# Altium footprint library USB1125GFB.PcbLib: 1 footprints
Each footprint in its own frame and in the unit in brackets; x right, y up, seen from the top. Pads: shape width x height; smd on the part's side, far side on the other; paste and mask are expansions set on the pad; w line width, h text height; cw(c..) or ccw(c..) is an arc to the next point about the centre after c.
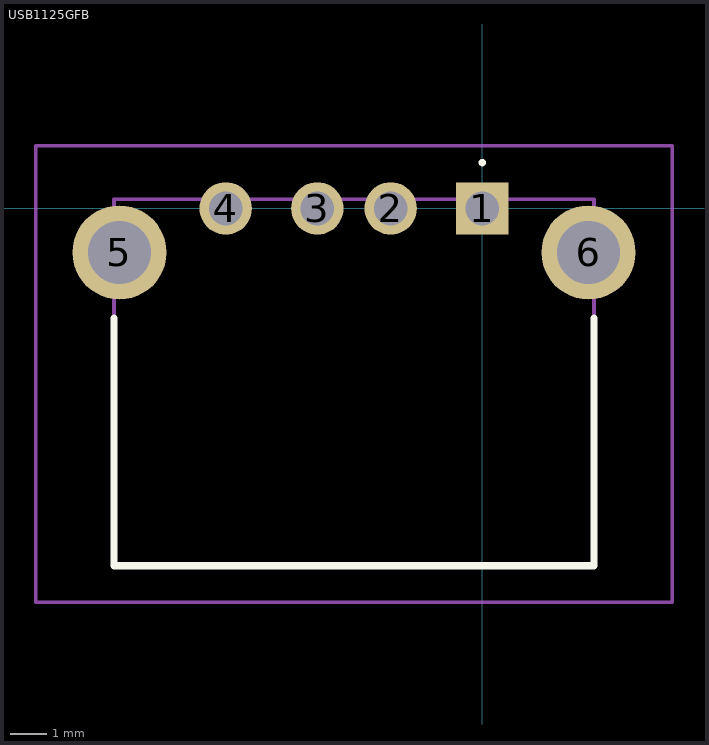
[diagram p0: the footprint, top view; thin cyan lines are the x and y axes]

## USB1125GFB [mm]
pads (6):
  rect 1.431x1.431 hole 0.92: 1(0,0)
  round 1.431 hole 0.92: 2(-2.5,0) 3(-4.5,0) 4(-7,0)
  round 2.565 hole 1.71: 5(-9.9,-1.2) 6(2.9,-1.2)
Top Overlay:
  lines w0.1: 0,1.2 cw(c0,1.25) 0,1.3 cw(c0,1.25) 0,1.2
  lines w0.2: -10.05,-3 -10.05,-9.75 3.05,-9.75 3.05,-3
Mechanical 15:
  lines w0.1: -10.05,-9.75 -10.05,0.25 3.05,0.25 3.05,-9.75 -10.05,-9.75
Mechanical 20:
  lines w0.1: -12.183,-10.75 -12.183,1.716 5.183,1.716 5.183,-10.75 -12.183,-10.75
3D body "USB1125-GF-B.stp": height 6.57, standoff -2.44, extent -10.052,-9.699 3.048,0.301